# Altium schematic symbol library Conn_JST_BM02B-PASS-1-TFT_LF_SN_eec.SchLib: 1 symbol
Pins are listed as number, name and electrical type; pins without a type are passive.

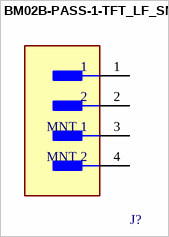
[diagram p0: symbol BM02B-PASS-1-TFT_LF_SN]

## BM02B-PASS-1-TFT_LF_SN
designator J?  (value not drawn)
pins: 1, 2, 3 MNT 1, 4 MNT 2